# EAGLE library part LM311 (library SPCoast)
COMPARATOR
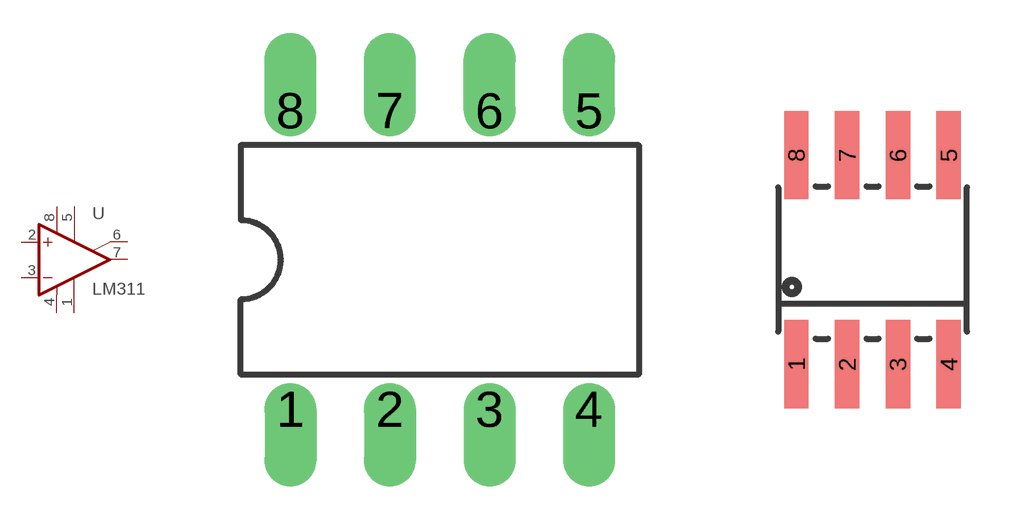
[diagram p23: symbol with the pads of DIL08; footprints DIL08, SO08]

Designator prefix U

## LM311N  [DIL08]
1  GND  pas
2  +IN  in
3  -IN  in
4  V-  pwr
5  ON  pas
6  ON/STR  pas
7  OUT  out
8  V+  pwr

## LM311D  [SO08]
Pads as for DIL08

## Footprint DIL08 (pad centres in mm)
Dual In Line Package
drill 0.813 offset: 1 -3.81,-3.81; 2 -1.27,-3.81; 3 1.27,-3.81; 4 3.81,-3.81; 5 3.81,3.81; 6 1.27,3.81; 7 -1.27,3.81; 8 -3.81,3.81

## Footprint SO08 (pad centres in mm)
Small Outline Package (narrow SOIC-8)
smd 0.61 x 2.21: 1 -1.905,-2.616; 2 -0.635,-2.616; 3 0.635,-2.616; 4 1.905,-2.616; 5 1.905,2.616; 6 0.635,2.616; 7 -0.635,2.616; 8 -1.905,2.616